# Altium schematic symbol library Mechanical_3D.SchLib: 38 symbols
Pins are listed as number, name and electrical type; pins without a type are passive.

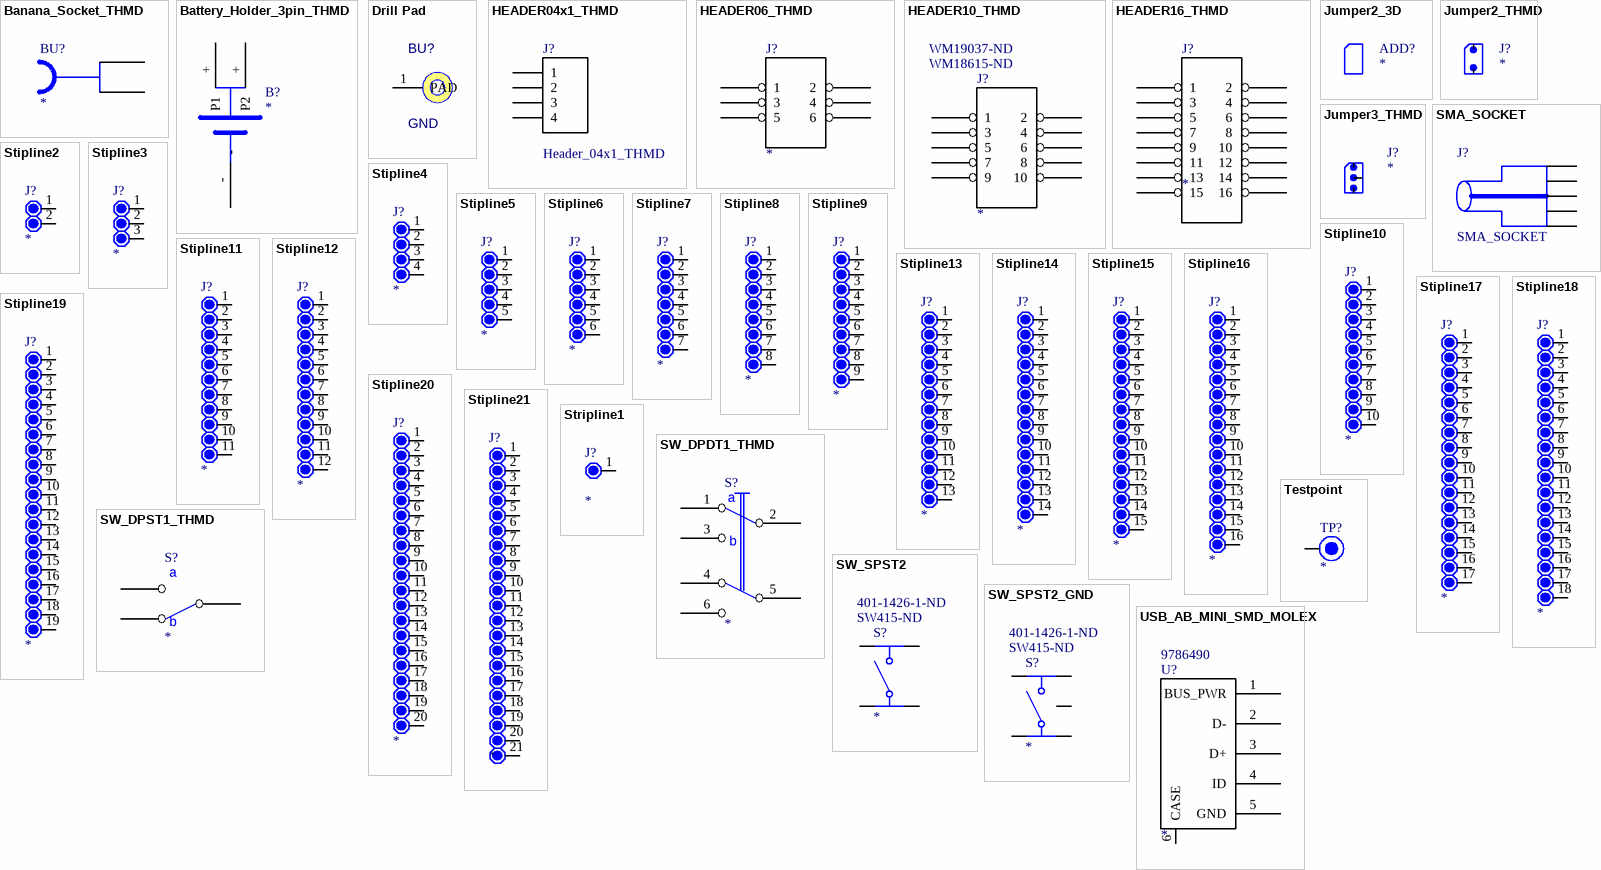
[diagram p0: symbols Banana_Socket_THMD to USB_AB_MINI_SMD_MOLEX]

## Banana_Socket_THMD
designator BU?
Supplier 1: Farnell; Supplier 2: Farnell; Supplier Part Number 1: 497344; Supplier Part Number 2: 497162
footprint SOCKET_THMD_BANANA_D2_black
3D model Banana_D2_mpb1_black (PCB3D Model)
footprint SOCKET_THMD_BANANA_D2_red
footprint SOCKET_THMD_HOLE
pins: 1, 2

## Battery_Holder_3pin_THMD
designator B?
footprint THT_BAT_CR2032_HU2032LF
pins: + P1, + P2, -

## Drill Pad
designator BU?, comment GND  (no BOM)
footprint Drill PAD 2mm (2mm Drill Pad with 3mm Soldermask)
footprint Drill Pad 6mm (6mm Drill Pad with 3mm - Soldermask)
pins: 1 PAD

## HEADER04x1_THMD
designator J?, comment Header_04x1_THMD
Header; Manufacturer Part Number: G2450C219-002; Supplier 1: Wieson; Supplier Part Number 1: G2450C219-002
footprint PLUG_THMD_HEADER04x1 (Wieson G2450C219-002)
pins: 1, 2, 3, 4

## HEADER06_THMD
designator J?
Supplier 1: Farnell; Supplier Part Number 1: 1096984
footprint PLUG_THMD_HEADER06
pins: 1, 2, 3, 4, 5, 6

## HEADER10_THMD
designator J?  Supplier Part Number 1: WM18615-ND  Supplier Part Number 2: WM19037-ND
Supplier 1: Digi-Key; Supplier 2: Digi-Key
footprint CONN_2mm_10pin_male (MOLEX - 877601016 - STIFTLEISTE, MILLIGRID 10POL)
footprint CONN_10pin_2mm_female (MOLEX - 87264-1052 - SOCKET, RIGHT ANGLE, M/GRID, 10WAY)
pins: 1, 2, 3, 4, 5, 6, 7, 8, 9, 10

## HEADER16_THMD
designator J?
Supplier 1: Farnell; Supplier Part Number 1: 1804208
footprint PLUG_THMD_HEADER16_SSW-108-02-T-D-RA (SAMTEC SSW-108-02-T-D-RA)
pins: 1, 2, 3, 4, 5, 6, 7, 8, 9, 10, 11, 12, 13, 14, 15, 16

## Jumper2_3D
designator ADD?
footprint Jumper grip blue

## Jumper2_THMD
designator J?
footprint PLUG_THMD_STRIP2
pins: 1, 2

## Jumper3_THMD
designator J?
footprint PLUG_THMD_STRIP3
pins: 1, 2, 3

## SMA_SOCKET
designator J?
Manufacturer: JOHNSON/EMERSON; Manufacturer Part Number: 142-0701-851; Component_Description: JOHNSON/EMERSON - 142-0701-851 - JACK SMA, END LAUNCH, TAB; Steckverbindertyp: SMA, koaxial; HF-Koaxanschluß: Lötmittel; Impedanz: 50; Kontaktmaterial: Messing; Kontaktüberzug: Gold; Frequenz, max.: 18; Steckverbindermontage: Leiterplatte; SVHC: No SVHC (15-Dec-2010); Anschlussart: Solder; Gehäusestil: Straight Jack; Isolations-Widerstand: 5000; Kontakttyp: Kontaktnase; Min Betriebstemperatur: -65; Spannung, Betriebs-: 335; Spannung, Steh-: 1000; Steckzyklen, Anzahl der: 500; Stärke, Frontplatten-: 1.73; Temperatur, Betriebs- max.: 165; Widerstand, Kontakt-: 3; Supplier 1: Farnell; RoHS: YES; Category: Steckverbinder; Stock 1: 2939; Pricing 1: 1=11,08, 10=8,43, 50=6,58, 100=5,93 (EUR); Auflage: Gold; Befestigungstyp: Leiterplatte; Farbe: Gold; Frequenz, Betriebs- max.: 18; Material, Kontakt-: Messing; Material, Steckergehäuse: Messing; Steckverbindermontageorientierung: Leiterplatte; ComponentLink1URL: http://www.farnell.com/datasheets/91607.pdf; ComponentLink1Description: http://www.farnell.com/datasheets/91607.pdf
footprint SOCKET_SMD_SMA_EDGE (Johnson Component 142-0707-801)
3D model Socket_SMA_SMD_Edge_142-0701-801 (PCB3D Model)
pins: 1, 2, 3, 4, 5

## Stipline2
designator J?
footprint PLUG_THMD_STRIP2
footprint PLUG_THMD_STRIP2 - 90°
footprint FEMALEHEADER_THMD_STRIP2 (Fischer BL-5)
pins: 1, 2

## Stipline3
designator J?
footprint PLUG_THMD_STRIP3
footprint PLUG_THMD_STRIP3 - 90°
pins: 1, 2, 3

## Stipline4
designator J?
footprint PLUG_THMD_STRIP4 - 2rows
footprint PLUG_THMD_STRIP4 - 2rows-90°
footprint PLUG_THMD_STRIP4
footprint PLUG_THMD_STRIP4 - 90°
footprint PLUG_THMD_STRIP4 - 2rows_FEMALE_BOT (FEMALE BOTTOM MOUNT - silk Top)
pins: 1, 2, 3, 4

## Stipline5
designator J?
footprint PLUG_THMD_STRIP5
footprint PLUG_THMD_STRIP5 - 90°
footprint PLUG_THMD_STRIP5_FEMALE_BOT (FEMALE BOTTOM MOUNT - silk Top)
pins: 1, 2, 3, 4, 5

## Stipline6
designator J?
footprint PLUG_THMD_STRIP6
footprint PLUG_THMD_STRIP6 - 2rows
footprint PLUG_THMD_STRIP6 - 2rows-90°
footprint PLUG_THMD_STRIP6 - 90°
footprint Model Name (Footprint not found)
footprint PLUG_THMD_STRIP6_SMD (2,54mm pitch)
pins: 1, 2, 3, 4, 5, 6

## Stipline7
designator J?
footprint PLUG_THMD_STRIP7
footprint PLUG_THMD_STRIP7 - 90°
pins: 1, 2, 3, 4, 5, 6, 7

## Stipline8
designator J?
footprint PLUG_THMD_STRIP8
footprint PLUG_THMD_STRIP8 - 2rows
footprint PLUG_THMD_STRIP8 - 2rows-90°
footprint PLUG_THMD_STRIP8 - 90°
footprint PLUG_THMD_STRIP8_FEMALE_BOT (FEMALE BOTTOM MOUNT - silk Top)
pins: 1, 2, 3, 4, 5, 6, 7, 8

## Stipline9
designator J?
footprint PLUG_THMD_STRIP9
footprint PLUG_THMD_STRIP9 - 90°
pins: 1, 2, 3, 4, 5, 6, 7, 8, 9

## Stipline10
designator J?
footprint PLUG_THMD_STRIP10
footprint PLUG_THMD_STRIP10 - 2rows
footprint PLUG_THMD_STRIP10 - 2rows-90°
footprint PLUG_THMD_STRIP10 - 90°
pins: 1, 2, 3, 4, 5, 6, 7, 8, 9, 10

## Stipline11
designator J?
footprint PLUG_THMD_STRIP11
footprint PLUG_THMD_STRIP11 - 90°
pins: 1, 2, 3, 4, 5, 6, 7, 8, 9, 10, 11

## Stipline12
designator J?
footprint PLUG_THMD_STRIP12
footprint PLUG_THMD_STRIP12 - 2rows
footprint PLUG_THMD_STRIP12 - 2rows-90°
footprint PLUG_THMD_STRIP12 - 90°
pins: 1, 2, 3, 4, 5, 6, 7, 8, 9, 10, 11, 12

## Stipline13
designator J?
footprint PLUG_THMD_STRIP13
footprint PLUG_THMD_STRIP13 - 90°
pins: 1, 2, 3, 4, 5, 6, 7, 8, 9, 10, 11, 12, 13

## Stipline14
designator J?
footprint PLUG_THMD_STRIP14
footprint PLUG_THMD_STRIP14 - 2rows
footprint PLUG_THMD_STRIP14 - 2rows-90°
footprint PLUG_THMD_STRIP14 - 90°
pins: 1, 2, 3, 4, 5, 6, 7, 8, 9, 10, 11, 12, 13, 14

## Stipline15
designator J?
footprint PLUG_THMD_STRIP15
footprint PLUG_THMD_STRIP15 - 90°
pins: 1, 2, 3, 4, 5, 6, 7, 8, 9, 10, 11, 12, 13, 14, 15

## Stipline16
designator J?
footprint PLUG_THMD_STRIP16
footprint PLUG_THMD_STRIP16 - 2rows
footprint PLUG_THMD_STRIP16 - 2rows-90°
footprint PLUG_THMD_STRIP16 - 90°
pins: 1, 2, 3, 4, 5, 6, 7, 8, 9, 10, 11, 12, 13, 14, 15, 16

## Stipline17
designator J?
footprint PLUG_THMD_STRIP17
footprint PLUG_THMD_STRIP17 - 90°
pins: 1, 2, 3, 4, 5, 6, 7, 8, 9, 10, 11, 12, 13, 14, 15, 16, 17

## Stipline18
designator J?
footprint PLUG_THMD_STRIP18
footprint PLUG_THMD_STRIP18 - 2rows
footprint PLUG_THMD_STRIP18 - 2rows-90°
footprint PLUG_THMD_STRIP18 - 90°
pins: 1, 2, 3, 4, 5, 6, 7, 8, 9, 10, 11, 12, 13, 14, 15, 16, 17, 18

## Stipline19
designator J?
footprint PLUG_THMD_STRIP19
footprint PLUG_THMD_STRIP19 - 90°
pins: 1, 2, 3, 4, 5, 6, 7, 8, 9, 10, 11, 12, 13, 14, 15, 16, 17, 18, 19

## Stipline20
designator J?
footprint PLUG_THMD_STRIP20
footprint PLUG_THMD_STRIP20 - 2rows
footprint PLUG_THMD_STRIP20 - 2rows-90°
footprint PLUG_THMD_STRIP20 - 90°
footprint CONN_20pin_2mm_female (Conn recept 2mm 20 pos side entry)
pins: 1, 2, 3, 4, 5, 6, 7, 8, 9, 10, 11, 12, 13, 14, 15, 16, 17, 18, 19, 20

## Stipline21
designator J?
footprint PLUG_THMD_STRIP21
pins: 1, 2, 3, 4, 5, 6, 7, 8, 9, 10, 11, 12, 13, 14, 15, 16, 17, 18, 19, 20, 21

## Stripline1
designator J?
footprint PLUG_THMD_STRIP1
footprint PLUG_THMD_STRIP1 - 90°
pins: 1

## SW_DPDT1_THMD
designator S?
Manufacturer: C & K COMPONENTS; Manufacturer Part Number: JS202011AQN; Supplier 1: Farnell; RoHS: YES; Stock 1: 4117; Pricing 1: 1=0,338, 25=0,313, 50=0,263, 100=0,238, 250=0,225, 500=0,213 (EUR); ComponentLink1URL: http://www.farnell.com/datasheets/1839850.pdf; ComponentLink1Description: http://www.farnell.com/datasheets/1839850.pdf; Supplier Part Number 1: 2435145
footprint SW_DPDT_JS202011AQN
pins: 1, 2, 3, 4, 5, 6
text: a; b

## SW_DPST1_THMD
designator S?
footprint SW_PCM12SMTR
3D model Switch_slide_pcm12smtr (PCB3D Model)
pins: 1, 2, 3
text: a; b

## SW_SPST2
designator S?  Supplier Part Number 1: SW415-ND  Supplier Part Number 2: 401-1426-1-ND
Supplier 1: Digi-Key; Supplier 2: Digi-Key
footprint SW_SPST_B3S-1000 (Tactile Switch (Sealed SMD Type))
pins: 1, 2, 3, 4

## SW_SPST2_GND
designator S?  Supplier Part Number 1: SW415-ND  Supplier Part Number 2: 401-1426-1-ND
Supplier 1: Digi-Key; Supplier 2: Digi-Key
footprint SW_SPST_KMR211G (Micromineature Tactile Switch for SMT)
pins: 0 Case, 1, 2, 3, 4

## Testpoint
designator TP?
footprint TESTPOINT
footprint Testpin_1mm_black
footprint Testpin_1mm_red
footprint Testpin_1mm_white
footprint Testpin_1mm_yellow
pins: 1

## USB_AB_MINI_SMD_MOLEX
designator U?  Supplier Part Number 1: 9786490
Supplier 1: Farnell
footprint SOCKET_SMD_USB_MINI_AB_MOLEX
pins: 1 BUS_PWR, 2 D-, 3 D+, 4 ID, 5 GND, 6 CASE